# Altium footprint library LCD_LCD-20X4B.PcbLib: 1 footprints
Each footprint in its own frame and in the unit in brackets; x right, y up, seen from the top. Pads: shape width x height; smd on the part's side, far side on the other; paste and mask are expansions set on the pad; w line width, h text height; cw(c..) or ccw(c..) is an arc to the next point about the centre after c.
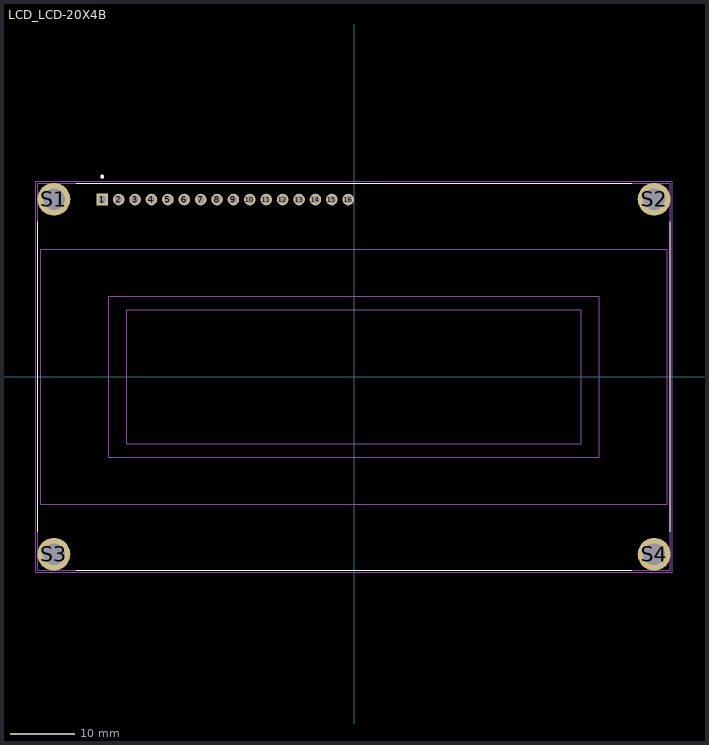
[diagram p0: the footprint, top view; thin cyan lines are the x and y axes]

## LCD_LCD-20X4B [mm]
pads (20):
  rect 1.8x1.8 hole 1.2: 1(-39,27.46)
  round 1.8 hole 1.2: 2(-36.46,27.46) 3(-33.92,27.46) 4(-31.38,27.46) 5(-28.84,27.46) 6(-26.3,27.46) 7(-23.76,27.46) 8(-21.22,27.46) 9(-18.68,27.46) 10(-16.14,27.46) 11(-13.6,27.46) 12(-11.06,27.46) 13(-8.52,27.46) 14(-5.98,27.46) 15(-3.44,27.46) 16(-0.9,27.46)
  round 5.1 hole 3.4: S1(-46.5,27.5) S2(46.5,27.5) S3(-46.5,-27.5) S4(46.5,-27.5)
Top Overlay:
  circle w0.3: c-39,31 r0.15
  lines w0.127: -49,-24 -49,24 ; -43,-30 43,-30 ; -43,30 43,30 ; 49,-24 49,24
Mechanical 13:
  circle w0.3: c-39,31 r0.15
  lines w0.127: -49,-30 -49,30 49,30 49,-30 -49,-30 ; -48.5,-19.75 48.5,-19.75 48.5,19.75 -48.5,19.75 -48.5,-19.75 ; -38,-12.5 -38,12.5 38,12.5 38,-12.5 -38,-12.5 ; -35.2,-10.4 35.2,-10.4 35.2,10.4 -35.2,10.4 -35.2,-10.4
Mechanical 15:
  lines w0.05: -49.3,-30.3 -49.3,30.3 49.3,30.3 49.3,-30.3 -49.3,-30.3
3D body "QP5522 Jaycar 20x4 LCD Module v14.step": height 13.54, standoff -6, extent -49,-30 49,30